# Altium footprint library arduclone2.PcbLib: 3 footprints
Each footprint in its own frame and in the unit in brackets; x right, y up, seen from the top. Pads: shape width x height; smd on the part's side, far side on the other; paste and mask are expansions set on the pad; w line width, h text height; cw(c..) or ccw(c..) is an arc to the next point about the centre after c.
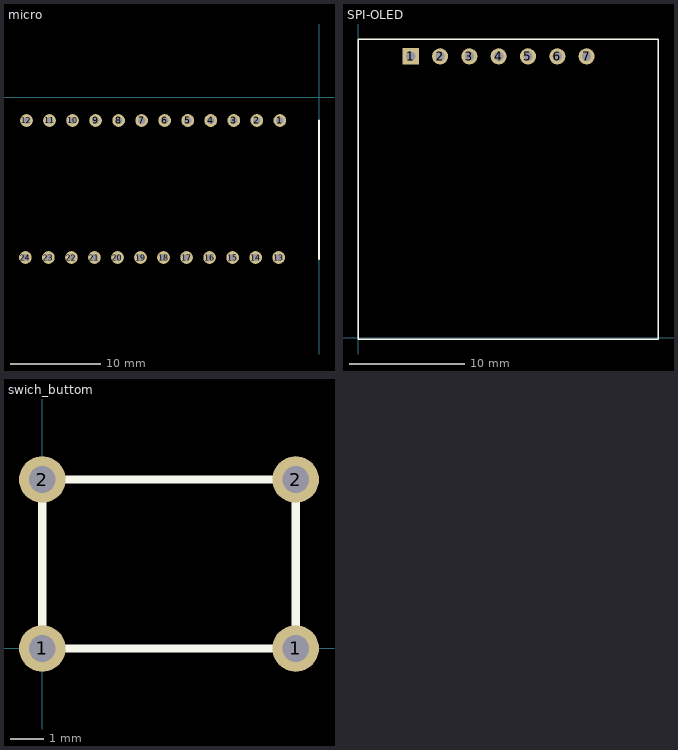
[diagram p0: the footprints below, top view; thin cyan lines are the x and y axes]

## micro [mm]
pads (24):
  round 1.4 hole 0.8: 1(-4.318,-2.54) 2(-6.858,-2.54) 3(-9.398,-2.54) 4(-11.938,-2.54) 5(-14.478,-2.54) 6(-17.018,-2.54) 7(-19.558,-2.54) 8(-22.098,-2.54) 9(-24.638,-2.54) 10(-27.178,-2.54) 11(-29.718,-2.54) 12(-32.258,-2.54) 13(-4.445,-17.653) 14(-6.985,-17.653) 15(-9.525,-17.653) 16(-12.065,-17.653) 17(-14.605,-17.653) 18(-17.145,-17.653) 19(-19.685,-17.653) 20(-22.225,-17.653) 21(-24.765,-17.653) 22(-27.305,-17.653) 23(-29.845,-17.653) 24(-32.385,-17.653)
Top Overlay:
  lines w0.254: 0,-17.78 0,-2.54

## SPI-OLED [mm]
pads (7):
  rect 1.4x1.4 hole 0.8: 1(4.572,24.373)
  round 1.4 hole 0.8: 2(7.112,24.373) 3(9.652,24.373) 4(12.192,24.373) 5(14.732,24.373) 6(17.272,24.373) 7(19.812,24.373)
Top Overlay:
  lines w0.127: 0,-0.127 0,25.873 26,25.873 26,-0.127 0,-0.127

## swich_buttom [mm]
pads (4):
  round 1.4 hole 0.8: 1(0,0) 1(7.62,0) 2(0,5.08) 2(7.62,5.08)
Top Overlay:
  lines w0.254: 0,0 0,5.08 7.62,5.08 7.62,0 0,0